# Altium footprint library Mixed_Signal#csv.PcbLib: 3 footprints
Each footprint in its own frame and in the unit in brackets; x right, y up, seen from the top. Pads: shape width x height; smd on the part's side, far side on the other; paste and mask are expansions set on the pad; w line width, h text height; cw(c..) or ccw(c..) is an arc to the next point about the centre after c.
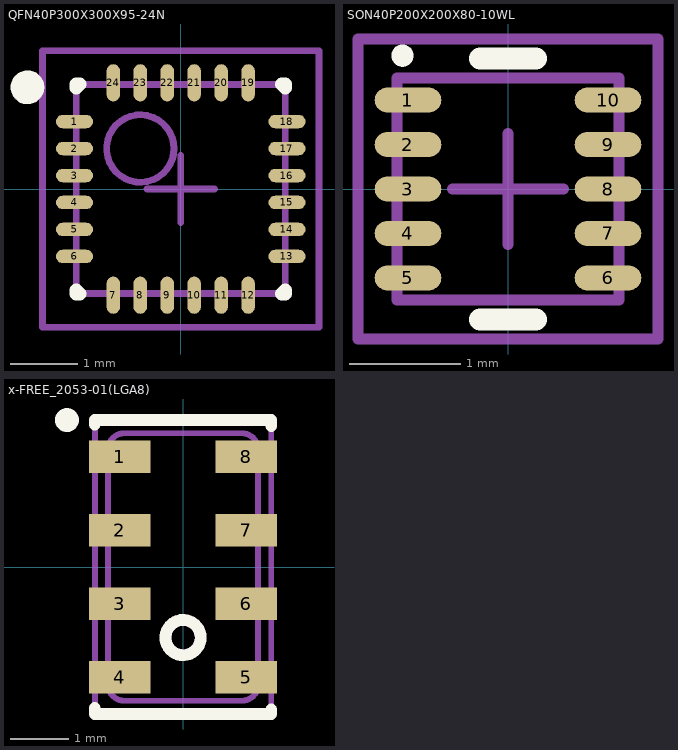
[diagram p0: the footprints below, top view; thin cyan lines are the x and y axes]

## QFN40P300X300X95-24N [mm] "QFN, 24-Leads, Body 3.1x3.1mm (max), Pitch 0.40mm, IPC Medium Density"
height 0.95
pads (24):
  oval 0.55x0.2 smd: 1(-1.575,1) 2(-1.575,0.6) 3(-1.575,0.2) 4(-1.575,-0.2) 5(-1.575,-0.6) 6(-1.575,-1) 13(1.575,-1) 14(1.575,-0.6) 15(1.575,-0.2) 16(1.575,0.2) 17(1.575,0.6) 18(1.575,1)
  oval 0.2x0.55 smd: 7(-1,-1.575) 8(-0.6,-1.575) 9(-0.2,-1.575) 10(0.2,-1.575) 11(0.6,-1.575) 12(1,-1.575) 19(1,1.575) 20(0.6,1.575) 21(0.2,1.575) 22(-0.2,1.575) 23(-0.6,1.575) 24(-1,1.575)
Top Overlay:
  circle w0.25: c-2.273,1.508 r0.125
  lines w0.2: -1.55,-1.5 -1.55,-1.55 -1.5,-1.55 ; -1.55,1.5 -1.55,1.55 -1.5,1.55 ; 1.5,-1.55 1.55,-1.55 1.55,-1.5 ; 1.5,1.55 1.55,1.55 1.55,1.5
Mechanical 13:
  circle w0.1: c-0.6,0.6 r0.5
  lines w0.1: -1.55,-1.55 -1.55,1.55 1.55,1.55 1.55,-1.55 -1.55,-1.55
Mechanical 15:
  lines w0.1: -0.5,0 0.5,0 ; 0,-0.5 0,0.5 ; -2.05,-2.05 -2.05,2.05 2.05,2.05 2.05,-2.05 -2.05,-2.05
3D body: height 0.95, standoff 0, extent -1.55,-1.55 1.55,1.55

## SON40P200X200X80-10WL [mm] "SON, 10-Leads, Body 2x2 mm, Pitch 0.4mm, IPC High Density"
height 0.8
pads (10):
  oval 0.6x0.225 smd paste-0.025 mask+0.05: 1(-0.9,0.8) 2(-0.9,0.4) 3(-0.9,0) 4(-0.9,-0.4) 5(-0.9,-0.8) 6(0.9,-0.8) 7(0.9,-0.4) 8(0.9,0) 9(0.9,0.4) 10(0.9,0.8)
Top Overlay:
  circle w0.1: c-0.95,1.2 r0.05
  lines w0.2: -0.25,-1.175 0.25,-1.175 ; -0.25,1.175 0.25,1.175
Top Solder:
  rectangle: -1.262,-0.975 -0.537,0.975
  region: 1.263,0.975 0.538,0.975 0.538,-0.975 1.263,-0.975
Mechanical 13:
  lines w0.1: -1,-1 1,-1 1,1 -1,1 -1,-1
Mechanical 15:
  lines w0.1: -0.5,0 0.5,0 ; 0,-0.5 0,0.5 ; -1.35,-1.35 1.35,-1.35 1.35,1.35 -1.35,1.35 -1.35,-1.35
3D body: height 0.8, standoff 0, extent -0.999,-0.999 0.999,0.999

## x-FREE_2053-01(LGA8) [mm] "Case 2053-01, Issue O, LGA Package"
height 1.2
pads (8):
  rect 1.05x0.55 smd mask+0.1: 1(-1.075,1.875) 2(-1.075,0.625) 3(-1.075,-0.625) 4(-1.075,-1.875) 5(1.075,-1.875) 6(1.075,-0.625) 7(1.075,0.625) 8(1.075,1.875)
Top Overlay:
  circle w0.2: c-1.975,2.5 r0.103
  circle w0.2: c0,-1.2 r0.3
  lines w0.2: -1.5,-2.4 -1.5,-2.5 1.5,-2.5 1.5,-2.425 ; -1.5,2.425 -1.5,2.5 1.5,2.5 1.5,2.4
Mechanical 13:
  circle w0.1: c0,-1.2 r0.25
  lines w0.1: -1.5,-2.5 1.5,-2.5 1.5,2.5 -1.5,2.5 -1.5,-2.5 ; -1.275,-2 ccw(c-1,-2) -1,-2.275 0,-2.275 1,-2.275 ccw(c1,-2) 1.275,-2 1.275,0 1.275,2 ccw(c1,2) 1,2.275 0,2.275 -1,2.275 ccw(c-1,2) -1.275,2 -1.275,0 -1.275,-2
3D body: height 1.11, standoff 0, extent -0.254,-1.454 0.254,-0.946
3D body: height 1.1, standoff 0.2, extent -1.28,-2.28 1.28,2.28
3D body: height 0.2, standoff 0, extent -1.499,-2.499 1.499,2.499